# EAGLE library part TSM-104 (library _c2h)
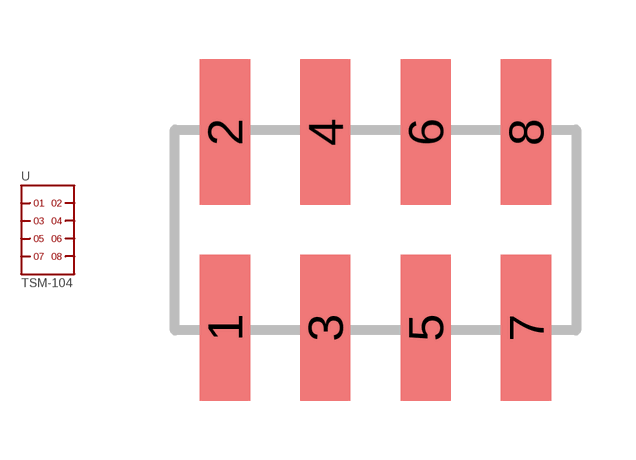
[diagram p1: symbol with the pads of TSM-104; footprint TSM-104]

Designator prefix -

## TSM-104  [TSM-104]
1  1
2  2
3  3
4  4
5  5
6  6
7  7
8  8

## Footprint TSM-104 (pad centres in mm)
smd 1.27 x 3.683: 1 -3.81,-2.477; 2 -3.81,2.477; 3 -1.27,-2.477; 4 -1.27,2.477; 5 1.27,-2.477; 6 1.27,2.477; 7 3.81,-2.477; 8 3.81,2.477